# EAGLE library part DRV8432 (library custom)
DRV8432 Dual Full Bridge PWM Motor Driver http://www.ti.com/product/drv8432?qgpn=drv8432
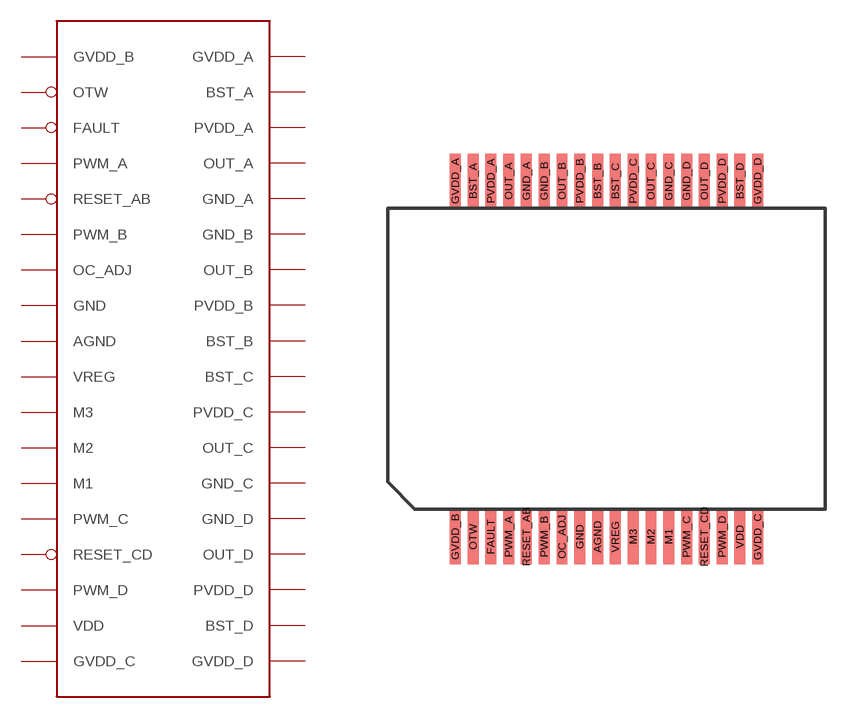
[diagram p8: symbol with the pads of R-PDSO-G36; footprint R-PDSO-G36]

Designator prefix -

## DRV8432 (DIGI: 296-29573-1-ND)  [R-PDSO-G36]
AGND  AGND
BST_A  BST_A
BST_B  BST_B
BST_C  BST_C
BST_D  BST_D
FAULT  FAULT
GND  GND
GND_A  GND_A
GND_B  GND_B
GND_C  GND_C
GND_D  GND_D
GVDD_A  GVDD_A
GVDD_B  GVDD_B
GVDD_C  GVDD_C
GVDD_D  GVDD_D
M1  M1
M2  M2
M3  M3
OC_ADJ  OC_ADJ
OTW  OTW
OUT_A  OUT_A
OUT_B  OUT_B
OUT_C  OUT_C
OUT_D  OUT_D
PVDD_A  PVDD_A
PVDD_B  PVDD_B
PVDD_C  PVDD_C
PVDD_D  PVDD_D
PWM_A  PWM_A
PWM_B  PWM_B
PWM_C  PWM_C
PWM_D  PWM_D
RESET_AB  RESET_AB
RESET_CD  RESET_CD
VDD  VDD
VREG  VREG

## Footprint R-PDSO-G36 (pad centres in mm)
smd 0.4 x 2: AGND -0.325,-6.5; BST_A -4.875,6.5; BST_B -0.325,6.5; BST_C 0.325,6.5; BST_D 4.875,6.5; FAULT -4.225,-6.5; GND -0.975,-6.5; GND_A -2.925,6.5; GND_B -2.275,6.5; GND_C 2.275,6.5; GND_D 2.925,6.5; GVDD_A -5.525,6.5; GVDD_B -5.525,-6.5; GVDD_C 5.525,-6.5; GVDD_D 5.525,6.5; M1 2.275,-6.5; M2 1.625,-6.5; M3 0.975,-6.5; OC_ADJ -1.625,-6.5; OTW -4.875,-6.5; OUT_A -3.575,6.5; OUT_B -1.625,6.5; OUT_C 1.625,6.5; OUT_D 3.575,6.5; PVDD_A -4.225,6.5; PVDD_B -0.975,6.5; PVDD_C 0.975,6.5; PVDD_D 4.225,6.5; PWM_A -3.575,-6.5; PWM_B -2.275,-6.5; PWM_C 2.925,-6.5; PWM_D 4.225,-6.5; RESET_AB -2.925,-6.5; RESET_CD 3.575,-6.5; VDD 4.875,-6.5; VREG 0.325,-6.5